# Altium footprint library USB.PcbLib: 4 footprints
Each footprint in its own frame and in the unit in brackets; x right, y up, seen from the top. Pads: shape width x height; smd on the part's side, far side on the other; paste and mask are expansions set on the pad; w line width, h text height; cw(c..) or ccw(c..) is an arc to the next point about the centre after c.
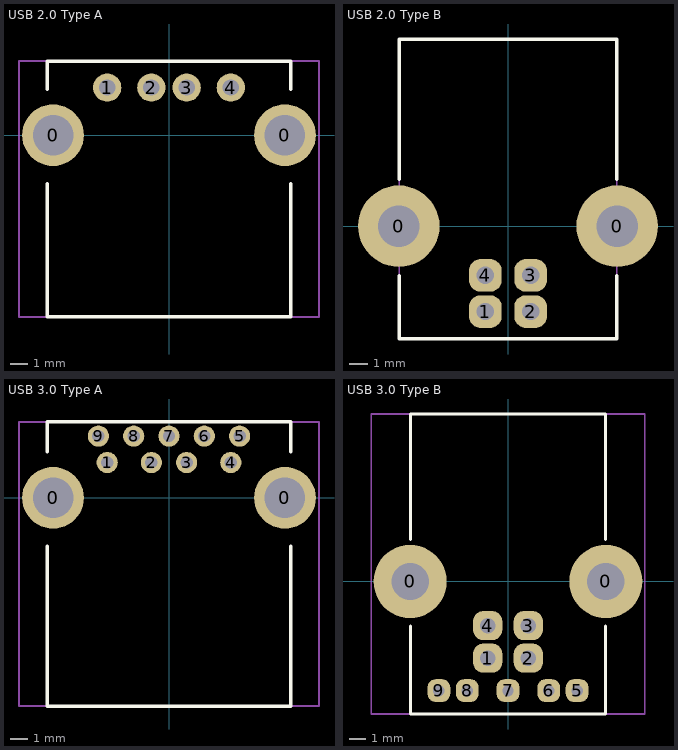
[diagram p0: the footprints below, top view; thin cyan lines are the x and y axes]

## USB 2.0 Type A [mm]
pads (6):
  round 3.5 hole 2.3: 0(-6.57,0) 0(6.57,0)
  round 1.6 hole 0.92: 1(-3.5,2.7) 2(-1,2.7) 3(1,2.7) 4(3.5,2.7)
Top Overlay:
  lines w0.2: -6.9,-2.75 -6.9,-10.3 6.9,-10.3 6.9,-2.75 ; -6.9,2.6 -6.9,4.2 6.9,4.2 6.9,2.6
Border:
  lines w0.1: -8.5,-10.3 8.5,-10.3 8.5,4.2 -8.5,4.2 -8.5,-10.3
3D body "53k4093_292303-1.stp": height 7.72, standoff -3.54, extent -8.117,-10.3 8.117,3.7

## USB 2.0 Type B [mm]
pads (6):
  round 4.5 hole 2.3: 0(-6.02,0) 0(6.02,0)
  rrect70% 1.8x1.8 hole 0.95: 1(-1.25,-4.71) 2(1.25,-4.71) 3(1.25,-2.71) 4(-1.25,-2.71)
Top Overlay:
  lines w0.2: -6,-2.75 -6,-6.2 6,-6.2 6,-2.75 ; -6,2.6 -6,10.3 6,10.3 6,2.6
Border:
  lines w0.1: -6,-6.2 -6,10.3 6,10.3 6,-6.2 -6,-6.2
3D body "61400416121.stp": height 11, standoff -3.35, extent -7.475,-6.2 7.475,10.3

## USB 3.0 Type A [mm]
pads (11):
  round 3.5 hole 2.3: 0(-6.57,0) 0(6.57,0)
  round 1.2 hole 0.7: 1(-3.5,2) 2(-1,2) 3(1,2) 4(3.5,2) 5(4,3.5) 6(2,3.5) 7(0,3.5) 8(-2,3.5) 9(-4,3.5)
Top Overlay:
  lines w0.2: -6.9,-2.75 -6.9,-11.8 6.9,-11.8 6.9,-2.75 ; -6.9,2.6 -6.9,4.3 6.9,4.3 6.9,2.6
Border:
  lines w0.1: -8.5,-11.8 8.5,-11.8 8.5,4.3 -8.5,4.3 -8.5,-11.8
3D body "usb_3_a_90.stp": height 7.9, standoff -3.6, extent -8.05,-11.78 8.05,4.67

## USB 3.0 Type B [mm]
pads (11):
  round 4.5 hole 2.3: 0(-6.02,0) 0(6.02,0)
  rrect70% 1.8x1.8 hole 0.95: 1(-1.25,-4.71) 2(1.25,-4.71) 3(1.25,-2.71) 4(-1.25,-2.71)
  rrect70% 1.4x1.4 hole 0.7: 5(4.25,-6.71) 6(2.5,-6.71) 7(0,-6.71) 8(-2.5,-6.71) 9(-4.25,-6.71)
Top Overlay:
  lines w0.2: -6,-2.75 -6,-8.15 6,-8.15 6,-2.75 ; -6,2.6 -6,10.3 6,10.3 6,2.6
Border:
  lines w0.1: -8.4,-8.15 -8.4,10.3 8.4,10.3 8.4,-8.15 -8.4,-8.15
3D body "692221030100.stp": height 13.1, standoff -2.46, extent -7.199,-7.975 7.199,10.325